# Altium schematic symbol library AltiumLive.SchLib: 2 symbols
Pins are listed as number, name and electrical type; pins without a type are passive.

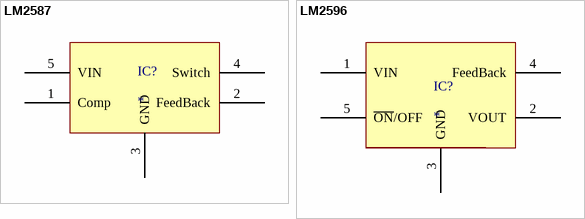
[diagram p0: symbols LM2587 to LM2596]

## LM2587
designator IC?
footprint D2PAK - T0263
pins: 1 Comp, 2 FeedBack, 3 GND, 4 Switch, 5 VIN

## LM2596
designator IC?
footprint LM2596
pins: 1 VIN, 2 VOUT, 3 GND, 4 FeedBack, 5 ~{ON}/OFF